# EAGLE library part TEXAS_INSTRUMENTS-MICROCONTROLLER-MSP430FR2422IRHLR (library Module_ICs)
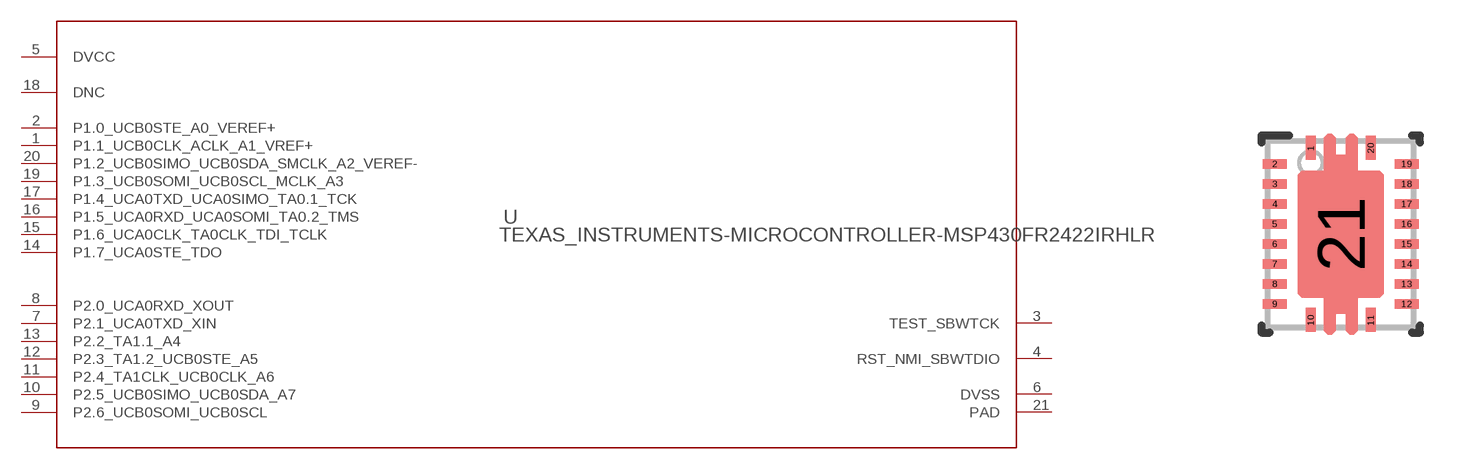
[diagram p31: symbol with the pads of TEXAS_INSTRUMENTS-MICROCONTROLLER-MSP430FR2422IRHLR; footprint TEXAS_INSTRUMENTS-MICROCONTROLLER-MSP430FR2422IRHLR]

Designator prefix U

## TEXAS_INSTRUMENTS-MICROCONTROLLER-MSP430FR2422IRHLR (MANUFACTURER: Texas Instruments; PARTNUMBER: MSP430FR2422IRHLR; REFDES: RefDes; TYPE: TYPE; VALUE: Value)  [TEXAS_INSTRUMENTS-MICROCONTROLLER-MSP430FR2422IRHLR]
1  P1.1_UCB0CLK_ACLK_A1_VREF+
2  P1.0_UCB0STE_A0_VEREF+
3  TEST_SBWTCK
4  RST_NMI_SBWTDIO
5  DVCC  pwr
6  DVSS  pwr
7  P2.1_UCA0TXD_XIN
8  P2.0_UCA0RXD_XOUT
9  P2.6_UCB0SOMI_UCB0SCL
10  P2.5_UCB0SIMO_UCB0SDA_A7
11  P2.4_TA1CLK_UCB0CLK_A6
12  P2.3_TA1.2_UCB0STE_A5
13  P2.2_TA1.1_A4
14  P1.7_UCA0STE_TDO
15  P1.6_UCA0CLK_TA0CLK_TDI_TCLK
16  P1.5_UCA0RXD_UCA0SOMI_TA0.2_TMS
17  P1.4_UCA0TXD_UCA0SIMO_TA0.1_TCK
18  DNC  pwr
19  P1.3_UCB0SOMI_UCB0SCL_MCLK_A3
20  P1.2_UCB0SIMO_UCB0SDA_SMCLK_A2_VEREF-
21  PAD  pwr

## Footprint TEXAS_INSTRUMENTS-MICROCONTROLLER-MSP430FR2422IRHLR (pad centres in mm)
smd 0.24 x 0.6: 1 -0.75,2.15; 10 -0.75,-2.15; 11 0.75,-2.15; 20 0.75,2.15
smd 0.6 x 0.24: 2 -1.65,1.75; 3 -1.65,1.25; 4 -1.65,0.75; 5 -1.65,0.25; 6 -1.65,-0.25; 7 -1.65,-0.75; 8 -1.65,-1.25; 9 -1.65,-1.75; 12 1.65,-1.75; 13 1.65,-1.25; 14 1.65,-0.75; 15 1.65,-0.25; 16 1.65,0.25; 17 1.65,0.75; 18 1.65,1.25; 19 1.65,1.75
smd 2.05 x 3.05: 21 0,0